# Altium schematic symbol library RELE_DIP16.Schlib: 1 symbol
Pins are listed as number, name and electrical type; pins without a type are passive.

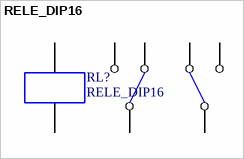
[diagram p0: symbol RELE_DIP16]

## RELE_DIP16
designator RL?
pins: 1 B1, 4 C2, 6 NC2, 8 NA2, 9 NA1, 11 NC1, 13 C1, 16 B2